# Altium footprint library 47D-15.PcbLib: 1 footprints
Each footprint in its own frame and in the unit in brackets; x right, y up, seen from the top. Pads: shape width x height; smd on the part's side, far side on the other; paste and mask are expansions set on the pad; w line width, h text height; cw(c..) or ccw(c..) is an arc to the next point about the centre after c.
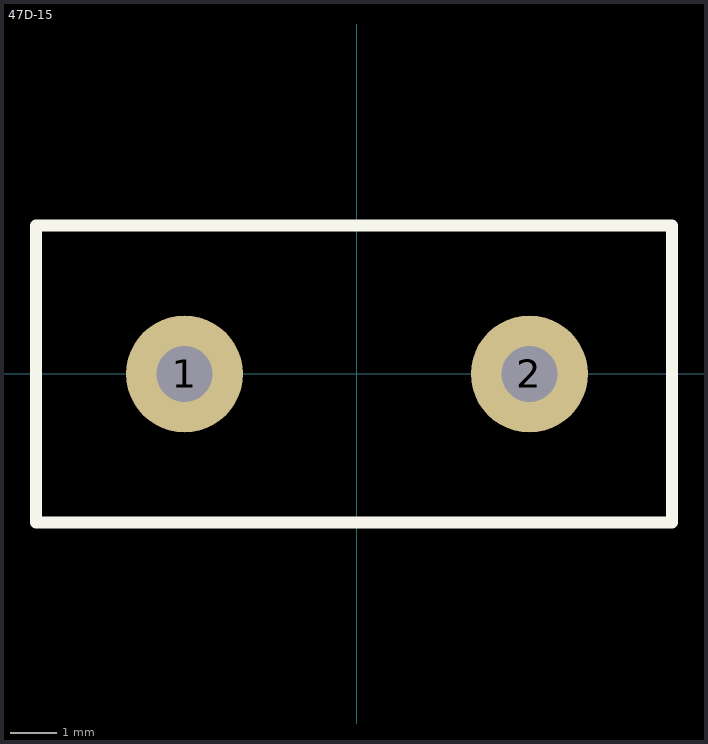
[diagram p0: the footprint, top view; thin cyan lines are the x and y axes]

## 47D-15 [mm]
pads (2):
  round 2.5 hole 1.2: 1(-3.683,0) 2(3.683,0)
Top Overlay:
  lines w0.254: -6.858,-3.175 6.731,-3.175 6.731,3.175 -6.858,3.175 -6.858,-3.175
3D body "Термистор 47D-15.STEP": height 19.24, standoff -1.25, extent -7.25,-3.5 7.25,3.5